# Altium footprint library 28Pins_Project_1[1.PcbLib: 28 footprints (part 2 of 2)
Each footprint in its own frame and in the unit in brackets; x right, y up, seen from the top. Pads: shape width x height; smd on the part's side, far side on the other; paste and mask are expansions set on the pad; w line width, h text height; cw(c..) or ccw(c..) is an arc to the next point about the centre after c.
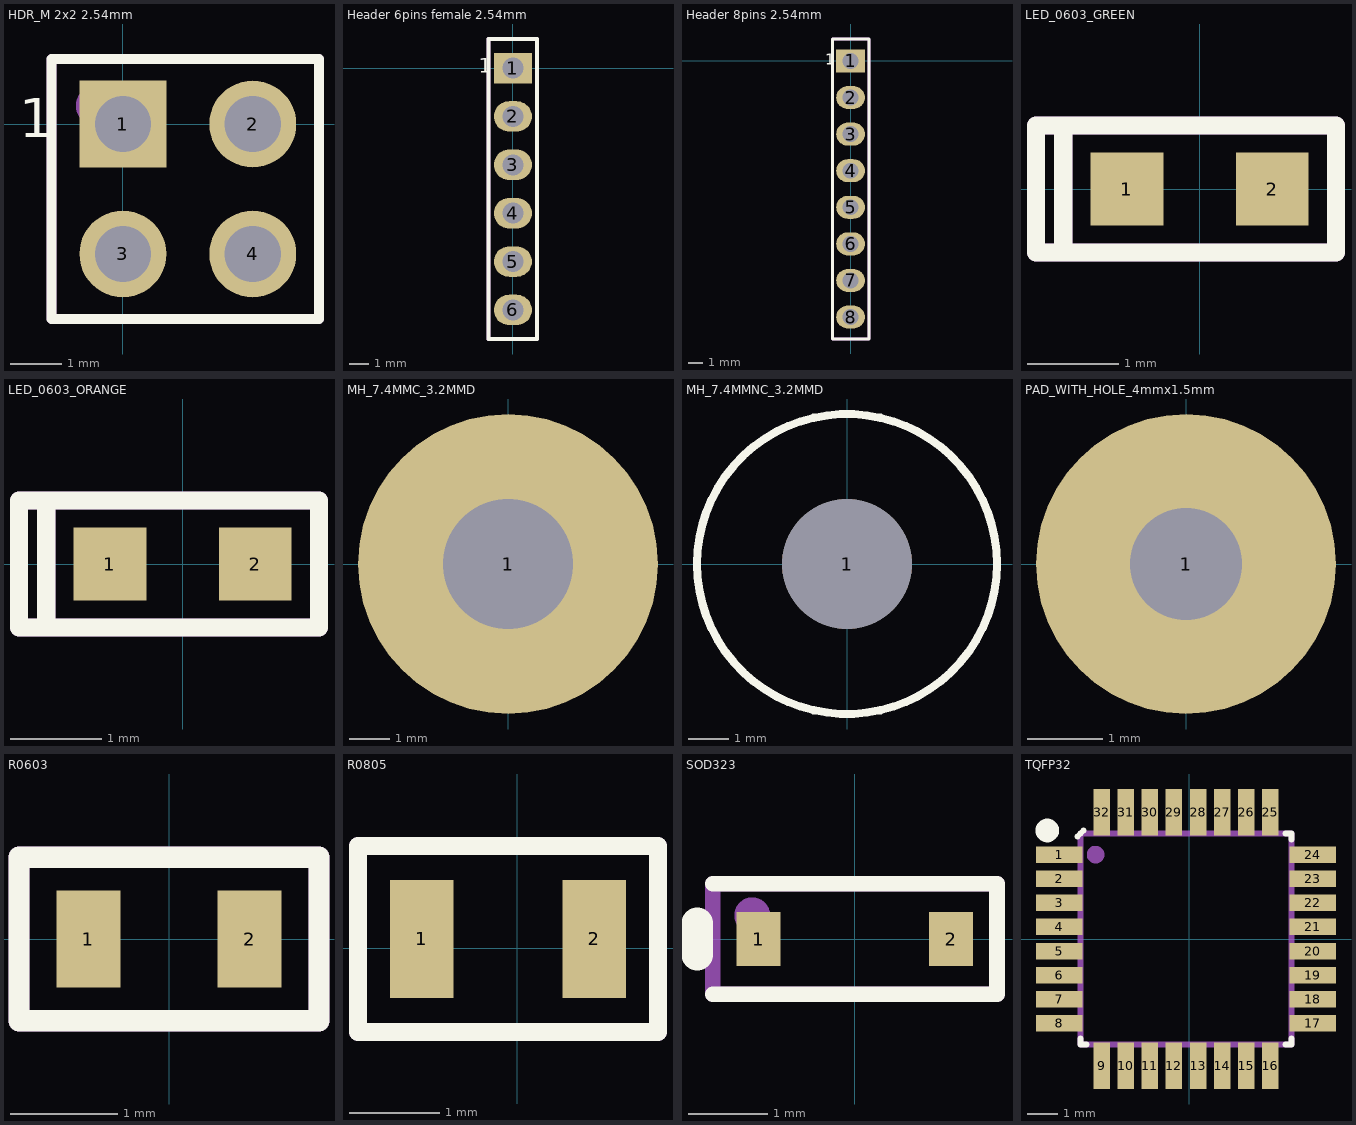
[diagram p1: the footprints below, top view; thin cyan lines are the x and y axes]

## HDR_M 2x2 2.54mm [mm]
pads (4):
  rect 1.7x1.7 hole 1.1: 1(0,0)
  round 1.7 hole 1.1: 2(2.54,0) 3(0,-2.54) 4(2.54,-2.54)
Top Overlay:
  lines w0.2: -1.397,-3.81 -1.397,1.27 3.835,1.27 3.835,-3.81 -1.397,-3.81
  text "1" at -2.032,-0.254 h0.76
Top Assembly:
  circle w0.5: c-0.53,0.36 r0.141
  lines w0.2: -1.397,-3.81 3.835,-3.81 3.835,1.27 2.464,1.27 0.61,1.27 -1.397,1.27 -1.397,-3.81
  text ".Designator" at 3.328,-3.556 h0.76
3D body "961204-6404-XX.stp": height 8.01, standoff -3.29, extent -1.244,-3.81 3.836,1.19

## Header 6pins female 2.54mm [mm]
pads (6):
  rect 2x1.6 hole 1.1: 1(0,0)
  oval 2x1.6 hole 1.1: 2(0,-2.54) 3(0,-5.08) 4(0,-7.62) 5(0,-10.16) 6(0,-12.7)
Top Overlay:
  lines w0.2: -1.27,-14.224 1.27,-14.224 1.27,1.524 -1.27,1.524 -1.27,-14.224
  text "1" at -1.778,-0.254 h0.76
Top Assembly:
  lines w0.2: -1.27,-14.224 1.27,-14.224 1.27,1.524 0,1.524 -1.27,1.524 -1.27,-14.224
  text ".Designator" at 0.323,-6.846 h1.27
3D body "User Library-zl262-6s_p2-54_l15-74_w2-54_h8-5.step": height 8.5, standoff -3, extent -1.27,-14.22 1.27,1.52

## Header 8pins 2.54mm [mm]
pads (8):
  rect 2x1.6 hole 1.1: 1(0,0)
  oval 2x1.6 hole 1.1: 2(0,-2.54) 3(0,-5.08) 4(0,-7.62) 5(0,-10.16) 6(0,-12.7) 7(0,-15.24) 8(0,-17.78)
Top Overlay:
  lines w0.2: -1.27,-19.304 1.27,-19.304 1.27,1.524 -1.27,1.524 -1.27,-19.304
  text "1" at -1.771,-0.271 h0.76
Top Assembly:
  circle w0.381: c-0.508,0.254 r0.254
  lines w0.2: -1.27,-19.304 -1.27,1.524 1.27,1.524 1.27,-19.304 -1.27,-19.304
  text ".Designator" at 0.623,-10.946 h1.27
3D body "User Library-zl262-8s_p2-54_l20-82_w2-54_h8-5.step": height 8.5, standoff -3, extent -1.27,-19.304 1.27,1.516

## LED_0603_GREEN [mm]
pads (2):
  rect 0.8x0.8 smd: 1(-0.8,0) 2(0.8,0)
Top Overlay:
  lines w0.2: -1.5,-0.7 -1.5,0.7 ; -1.5,-0.7 1.5,-0.7 1.5,0.7 -1.5,0.7 ; -1.5,-0.7 -1.8,-0.7 -1.8,0.7 -1.5,0.7
Top Assembly:
  lines w0.2: -1.5,-0.7 1.5,-0.7 ; -1.5,-0.7 -1.8,-0.7 -1.8,0.7 -1.5,0.7 ; -1.5,-0.7 -1.5,0.7 ; -1.5,0.7 1.5,0.7 1.5,-0.7 ; 1.5,-0.7 1.5,-0.7
  text ".Designator" at -1.1,-0.5 h0.6
3D body "User Library-LED SMD 0603 super red.step": height 0.65, standoff 0, extent -0.85,-0.4 0.85,0.4
3D body: height 0.66, standoff 0.55, extent -0.15,-0.15 0.15,0.15

## LED_0603_ORANGE [mm]
pads (2):
  rect 0.8x0.8 smd: 1(-0.8,0) 2(0.8,0)
Top Overlay:
  lines w0.2: -1.5,-0.7 -1.5,0.7 ; -1.5,-0.7 1.5,-0.7 1.5,0.7 -1.5,0.7 ; -1.5,-0.7 -1.8,-0.7 -1.8,0.7 -1.5,0.7
Top Assembly:
  lines w0.2: -1.5,-0.7 1.5,-0.7 ; -1.5,-0.7 -1.5,0.7 ; -1.5,-0.7 -1.8,-0.7 -1.8,0.7 -1.5,0.7 ; -1.5,0.7 1.5,0.7 1.5,-0.7 ; 1.5,-0.7 1.5,-0.7
  text ".Designator" at -1.1,-0.5 h0.6
3D body: height 0.65, standoff 0, extent -1.2,1.7 -1.2,1.7
3D body: height 0.65, standoff 0, extent -3.9,-0.3 -3.9,-0.3
3D body: height 0.66, standoff 0.55, extent -0.15,-0.15 0.15,0.15
3D body: height 0.25, standoff 0, extent -0.85,-0.4 0.85,0.4

## MH_7.4MMC_3.2MMD [mm]
pads (1):
  round 7.4 hole 3.2: 1(0,0)

## MH_7.4MMNC_3.2MMD [mm]
pads (1):
  round 3.2 hole 3.2 unplated: 1(0,0)
Top Overlay:
  circle w0.2: c0,0 r3.7

## PAD_WITH_HOLE_4mmx1.5mm [mm]
pads (1):
  round 4 hole 1.5: 1(0,0)

## R0603 [mm]
pads (2):
  rect 0.6x0.9 smd: 1(-0.75,0) 2(0.75,0)
Top Overlay:
  lines w0.2: -1.397,-0.762 -1.397,0.762 1.397,0.762 1.397,-0.762 -1.397,-0.762
Top Assembly:
  lines w0.2: -1.397,-0.762 -1.397,0.762 1.397,0.762 1.397,-0.762 -1.397,-0.762
  text ".Designator" at -1.043,-0.462 h0.6
3D body "R0603.step": height 0.81, standoff 0.01, extent -0.8,-0.434 0.8,0.406

## R0805 [mm]
pads (2):
  rect 0.7x1.3 smd: 1(-1.05,0.1) 2(0.85,0.1)
Top Overlay:
  lines w0.2: -1.751,-0.925 1.551,-0.925 1.551,1.125 -1.751,1.125 -1.751,-0.925
Top Assembly:
  lines w0.2: -1.75,-0.925 1.55,-0.925 1.55,1.125 -1.75,1.125 -1.75,-0.925
  text ".Designator" at -1.424,-0.739 h0.25
3D body "User Library-Chip Resistor2.step": height 0.71, standoff 0.01, extent -1.1,-0.5 0.9,0.7

## SOD323 [mil]
pads (2):
  rect 22x27 smd: 1(-48,0) 2(48,0)
Top Overlay:
  lines w7.87: -70.87,-27.56 70.87,-27.56 70.87,27.56 -70.87,27.56
  lines w15.75: -78.74,-7.87 -78.74,7.87
Top Assembly:
  circle w10: c-51.18,11.81 r3.94
  lines w7.87: -70.87,-27.56 -70.87,27.56 70.87,27.56 70.87,-27.56 -70.87,-27.56
  text ".Designator" at -39.37,-10.5 h15.75
3D body "User Library-SOD2513X11.step": height 43.81, standoff 0.5, extent -53.14,-24.6 53.16,24.61

## TQFP32 [mm]
pads (32):
  rect 1.55x0.55 smd mask+0.06: 1(-4.3,2.8) 2(-4.3,2) 3(-4.3,1.2) 4(-4.3,0.4) 5(-4.3,-0.4) 6(-4.3,-1.2) 7(-4.3,-2) 8(-4.3,-2.8) 17(4.1,-2.8) 18(4.1,-2) 19(4.1,-1.2) 20(4.1,-0.4) 21(4.1,0.4) 22(4.1,1.2) 23(4.1,2)
  rect 0.55x1.55 smd mask+0.06: 9(-2.9,-4.2) 10(-2.1,-4.2) 11(-1.3,-4.2) 12(-0.5,-4.2) 13(0.3,-4.2) 14(1.1,-4.2) 15(1.9,-4.2) 16(2.7,-4.2) 25(2.7,4.2) 26(1.9,4.2) 27(1.1,4.2) 28(0.3,4.2) 29(-0.5,4.2) 30(-1.3,4.2) 31(-2.1,4.2) 32(-2.9,4.2)
  rect 1.55x0.55 smd paste+0 mask+0.06: 24(4.1,2.8)
Top Overlay:
  circle w0.5: c-4.7,3.6 r0.141
  lines w0.2: -3.7,3.4 -3.5,3.6 -3.6,3.5 ; -3.4,-3.5 -3.6,-3.5 ; 3.2,3.5 3.4,3.5 ; 3.4,-3.3 3.4,-3.5 ; -3.6,-3.5 -3.6,-3.3 -3.6,-3.5 ; 3.4,-3.5 3.2,-3.5 3.4,-3.5 ; 3.4,3.5 3.4,3.3 3.4,3.5
Top Assembly:
  circle w0.3: c-3.1,2.8 r0.141
  lines w0.2: -3.6,-3.5 -3.6,3.5 ; -3.6,-3.5 -3.6,3.5 ; -3.6,-3.5 3.4,-3.5 3.4,3.5 -3.6,3.5
  text ".Designator" at -0.2,-0.1 h1.8
3D body "User Library-tqfp32.step": height 1.2, standoff 0, extent -4.7,-4.599 4.499,4.6